# Altium footprint library ATmega8U.PcbLib: 1 footprints
Each footprint in its own frame and in the unit in brackets; x right, y up, seen from the top. Pads: shape width x height; smd on the part's side, far side on the other; paste and mask are expansions set on the pad; w line width, h text height; cw(c..) or ccw(c..) is an arc to the next point about the centre after c.
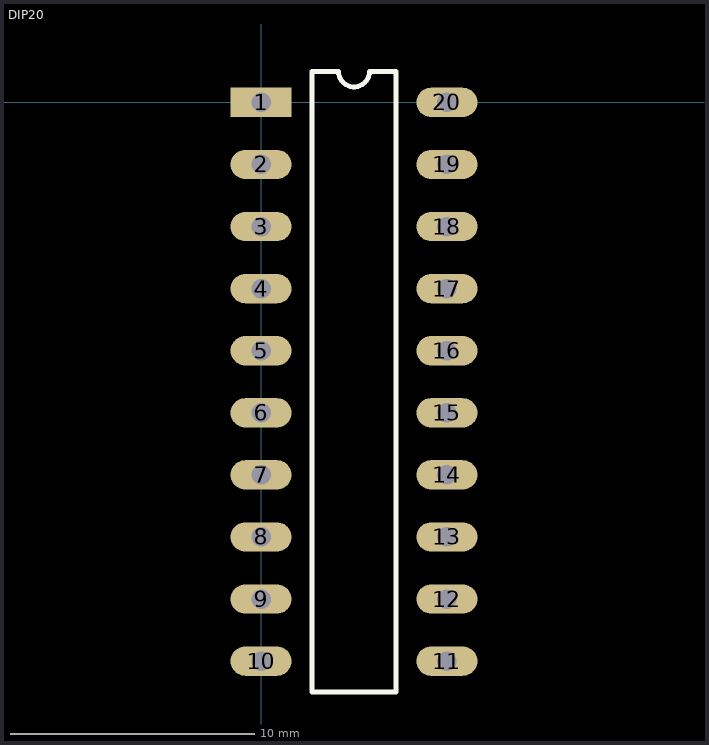
[diagram p0: the footprint, top view; thin cyan lines are the x and y axes]

## DIP20 [mm]
pads (20):
  rect 2.5x1.2 hole 0.8: 1(0,0)
  oval 2.5x1.2 hole 0.8: 2(0,-2.54) 3(0,-5.08) 4(0,-7.62) 5(0,-10.16) 6(0,-12.7) 7(0,-15.24) 8(0,-17.78) 9(0,-20.32) 10(0,-22.86) 11(7.6,-22.86) 12(7.6,-20.32) 13(7.6,-17.78) 14(7.6,-15.24) 15(7.6,-12.7) 16(7.6,-10.16) 17(7.6,-7.62) 18(7.6,-5.08) 19(7.6,-2.54) 20(7.6,0)
Top Overlay:
  lines w0.2: 2.085,-24.13 2.085,1.27 3.165,1.27 ccw(c3.8,1.27) 4.435,1.27 5.515,1.27 5.515,-24.13 2.085,-24.13
3D body: height 0, standoff 0, extent -1268.222,-1269.619 -1268.222,-1269.619
3D body: height 0, standoff 0, extent -1265.102,-1264.737 -1265.102,-1264.737
3D body: height 4.57, standoff -3.81, extent -0.1,-24.635 7.72,1.905